# EAGLE library part MMBD4448HTW (library RoboJackets-Diodes)
Diode Array 3 Independent Standard 80V 250mA Surface Mount 6-TSSOP, SC-88, SOT-363 Datasheet <https://www.diodes.com/assets/Datasheets/ds30153.pdf>
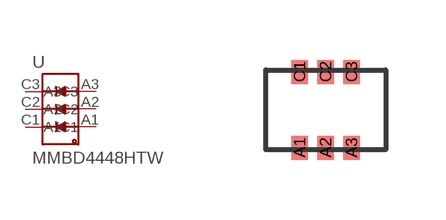
[diagram p0: symbol with the pads of MMBD4448HTW; footprint MMBD4448HTW]

Designator prefix U

## MMBD4448HTW (DKPN: MMBD4448HTW-FDICT-ND; VALUE: 80V)  [MMBD4448HTW]
A1  A1  pas
A2  A2  pas
A3  A3  pas
C1  C1  pas
C2  C2  pas
C3  C3  pas

## Footprint MMBD4448HTW (pad centres in mm)
smd 0.42 x 0.6: A1 -0.65,-0.95; A2 0,-0.95; A3 0.65,-0.95; C1 -0.65,0.95; C2 0,0.95; C3 0.65,0.95